# Altium integrated library TMC5160-TA.IntLib: 1 symbol
Pins are listed as number, name and electrical type; pins without a type are passive.

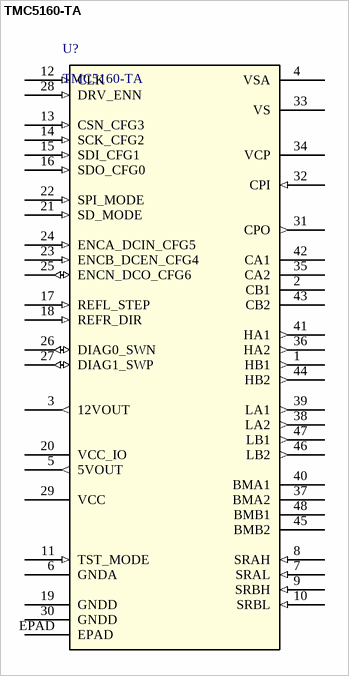
[diagram p0: symbol TMC5160-TA]

## TMC5160-TA
designator U?
IC MTR DRVR BIPOLAR 8-60V 48TQFP; Built_By: EMA_Jessica; Vendor: TRINAMIC; Description: STEPPER MOTOR CDRIVER; Copyright: Copyright (C) 2016 Accelerated Designs. All rights reserved; Manufacturer_Part_Number: TMC5160-TA; RefDes: RefDes; Type: DEV; Value: Value; Supplier 1: Digi-Key; Manufacturer 1: Trinamic; Manufacturer Part Number 1: TMC5160-TA; Stock 1: 2328; Pricing 1: 1=5.61000, 50=5.02000, 100=4.43000, 500=3.85002, 1000=3.72000 (USD); RoHS: No; ComponentLink1URL: http://www.farnell.com/datasheets/2580153.pdf?src-supplier=Farnell; ComponentLink1Description: http://www.farnell.com/datasheets/2580153.pdf?src-supplier=Farnell; ComponentLink2URL: https://www.trinamic.com/fileadmin/assets/Products/ICs_Documents/TMC5160_Datasheet_V1.01.pdf?src-supplier=Digi-Key; ComponentLink2Description: https://www.trinamic.com/fileadmin/assets/Products/ICs_Documents/TMC5160_Datasheet_V1.01.pdf?src-supplier=Digi-Key
footprint eTQFP48_9x9
pins: 1 HB1 (out), 2 CB1, 3 12VOUT (out), 4 VSA (power), 5 5VOUT (out), 6 GNDA (power), 7 SRAL (in), 8 SRAH (in), 9 SRBH (in), 10 SRBL (in), 11 TST_MODE (in), 12 CLK (in), 13 CSN_CFG3 (in), 14 SCK_CFG2 (in), 15 SDI_CFG1 (in), 16 SDO_CFG0 (in), 17 REFL_STEP (in), 18 REFR_DIR (in), 19 GNDD (power), 20 VCC_IO (power), 21 SD_MODE (in), 22 SPI_MODE (in), 23 ENCB_DCEN_CFG4 (in), 24 ENCA_DCIN_CFG5 (in), 25 ENCN_DCO_CFG6 (io), 26 DIAG0_SWN (io), 27 DIAG1_SWP (io), 28 DRV_ENN (in), 29 VCC (power), 30 GNDD (power), 31 CPO (out), 32 CPI (in), 33 VS (power), 34 VCP (power), 35 CA2, 36 HA2 (out), 37 BMA2, 38 LA2 (out), 39 LA1 (out), 40 BMA1, 41 HA1 (out), 42 CA1, 43 CB2, 44 HB2 (out), 45 BMB2, 46 LB2 (out), 47 LB1 (out), 48 BMB1, EPAD